# EAGLE library part 744-8_S (library resistor-array)
CTS 744 Series 8 Terminations, 4 Resistors
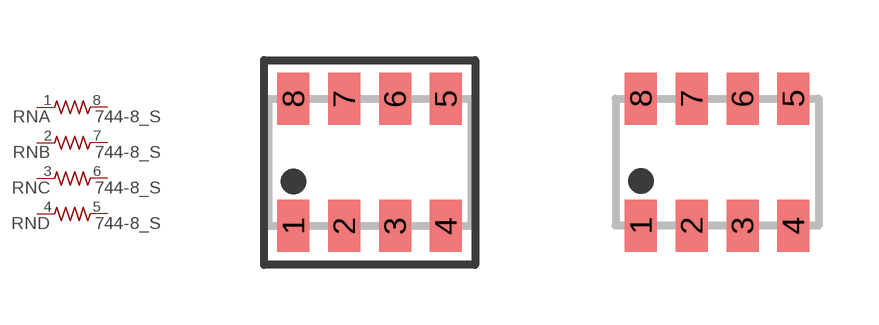
[diagram p13: symbol with the pads of 744-8; footprints 744-8, 744-8NS]

Designator prefix RN; gates A=R1NV B=R1NV C=R1NV D=R1NV

## 744-8_S  [744-8]
1  A:1  pas
2  B:1  pas
3  C:1  pas
4  D:1  pas
5  D:2  pas
6  C:2  pas
7  B:2  pas
8  A:2  pas

## 744-8_SNS  [744-8NS]
Pads as for 744-8

## Footprint 744-8 (pad centres in mm)
CTS 744 Series 8 Terminations, 4 Resistors
smd 0.8 x 1.3: 1 -1.905,-1.587; 2 -0.635,-1.587; 3 0.635,-1.587; 4 1.905,-1.587; 5 1.905,1.587; 6 0.635,1.587; 7 -0.635,1.587; 8 -1.905,1.587

## Footprint 744-8NS (pad centres in mm)
CTS 744 Series 8 Terminations, 4 Resistors
smd 0.8 x 1.3: 1 -1.905,-1.587; 2 -0.635,-1.587; 3 0.635,-1.587; 4 1.905,-1.587; 5 1.905,1.587; 6 0.635,1.587; 7 -0.635,1.587; 8 -1.905,1.587